# EAGLE library part 233-516/000-004 (library con-wago_233)
Stand: 01.01.2014. Die jeweils aktuellen Daten zu diesem Artikel finden Sie in unserem Produktkatalog, den Sie unter www.wago.com einsehen können. As of: 01/01/2014. Please find the newest data for this article in our product catalogue, which can be viewed under www.wago.com.
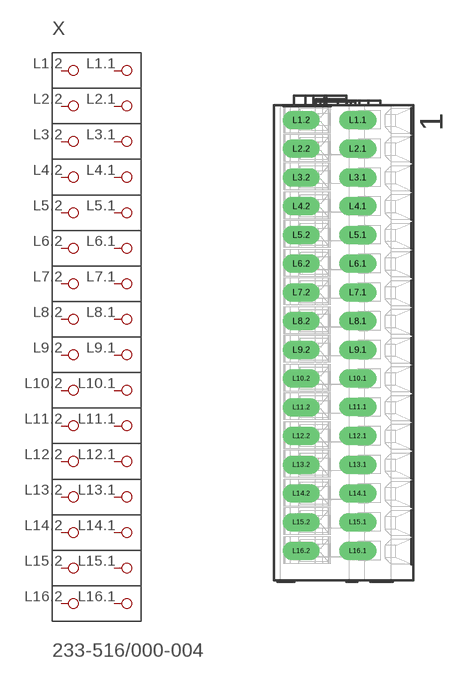
[diagram p185: symbol with the pads of P-233-516; footprint P-233-516]

Designator prefix X

## 233-516/000-004  [P-233-516]
L1.1  P1.1
L1.2  P1.2
L2.1  P2.1
L2.2  P2.2
L3.1  P3.1
L3.2  P3.2
L4.1  P4.1
L4.2  P4.2
L5.1  P5.1
L5.2  P5.2
L6.1  P6.1
L6.2  P6.2
L7.1  P7.1
L7.2  P7.2
L8.1  P8.1
L8.2  P8.2
L9.1  P9.1
L9.2  P9.2
L10.1  P10.1
L10.2  P10.2
L11.1  P11.1
L11.2  P11.2
L12.1  P12.1
L12.2  P12.2
L13.1  P13.1
L13.2  P13.2
L14.1  P14.1
L14.2  P14.2
L15.1  P15.1
L15.2  P15.2
L16.1  P16.1
L16.2  P16.2

## Footprint P-233-516 (pad centres in mm)
drill 1.1 long: L1.1 1.238,19.33; L1.2 -3.762,19.33; L2.1 1.238,16.79; L2.2 -3.762,16.79; L3.1 1.238,14.25; L3.2 -3.762,14.25; L4.1 1.238,11.71; L4.2 -3.762,11.71; L5.1 1.238,9.17; L5.2 -3.762,9.17; L6.1 1.238,6.63; L6.2 -3.762,6.63; L7.1 1.238,4.09; L7.2 -3.762,4.09; L8.1 1.238,1.55; L8.2 -3.762,1.55; L9.1 1.238,-0.99; L9.2 -3.762,-0.99; L10.1 1.238,-3.53; L10.2 -3.762,-3.53; L11.1 1.238,-6.05; L11.2 -3.762,-6.07; L12.1 1.238,-8.61; L12.2 -3.762,-8.61; L13.1 1.238,-11.15; L13.2 -3.762,-11.15; L14.1 1.238,-13.69; L14.2 -3.762,-13.69; L15.1 1.238,-16.23; L15.2 -3.762,-16.23; L16.1 1.238,-18.77; L16.2 -3.762,-18.77